# EAGLE library part SIGNPOST_MODULE_HEADER (library signpost)
The 14 pin signpost module header
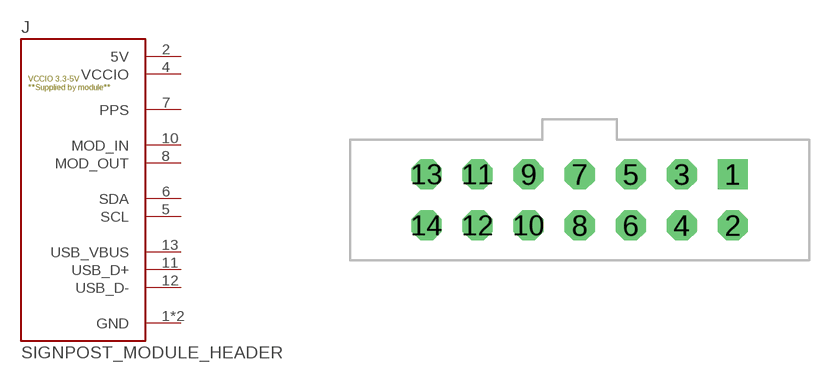
[diagram p30: symbol with the pads of SIGNPOST_MODULE_HEADER; footprint SIGNPOST_MODULE_HEADER]

Designator prefix J

## SIGNPOST_MODULE_HEADER (DIGIKEY: S9170-ND; MANUFACTURER: Sullins Connector; MPN: SBH11-PBPC-D07-ST-BK)  [SIGNPOST_MODULE_HEADER]
1  GND
2  5V
4  VCCIO
5  SCL
6  SDA
7  PPS
8  MOD_OUT
10  MOD_IN
11  USB_D+
12  USB_D-
13  USB_VBUS
14  GND

## Footprint SIGNPOST_MODULE_HEADER (pad centres in mm)
drill 0.991 square: 1 7.62,1.27
drill 0.991 octagon: 2 7.62,-1.27; 3 5.08,1.27; 4 5.08,-1.27; 5 2.54,1.27; 6 2.54,-1.27; 7 0,1.27; 8 0,-1.27; 9 -2.54,1.27; 10 -2.54,-1.27; 11 -5.08,1.27; 12 -5.08,-1.27; 13 -7.62,1.27; 14 -7.62,-1.27